# Altium schematic symbol library PIEZO_BUZZER.SchLib: 1 symbol
Pins are listed as number, name and electrical type; pins without a type are passive.

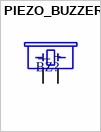
[diagram p0: symbol PIEZO_BUZZER]

## PIEZO_BUZZER
designator BZ?
MF: PUI; MP: AI-3035-TWT-3V-R; Digi-Key_Part_Number: 668-1204-ND; Value: *; SnapEDA_Link: https://www.snapeda.com/parts/AI-3035-TWT-3V-R/PUI%20Audio,%20Inc./view-part/293967/?ref=snap; Package: PUI; Digi-Key_Purchase_URL: https://www.digikey.com/product-detail/en/pui-audio-inc/AI-3035-TWT-3V-R/668-1204-ND/1745457?utm_source=snapeda&utm_medium=aggregator&utm_campaign=symbol
pins: 1 +, 2 |